# Altium integrated library TI_Logic_Specialty_Logic.IntLib: 2504 symbols (part 17 of 81)
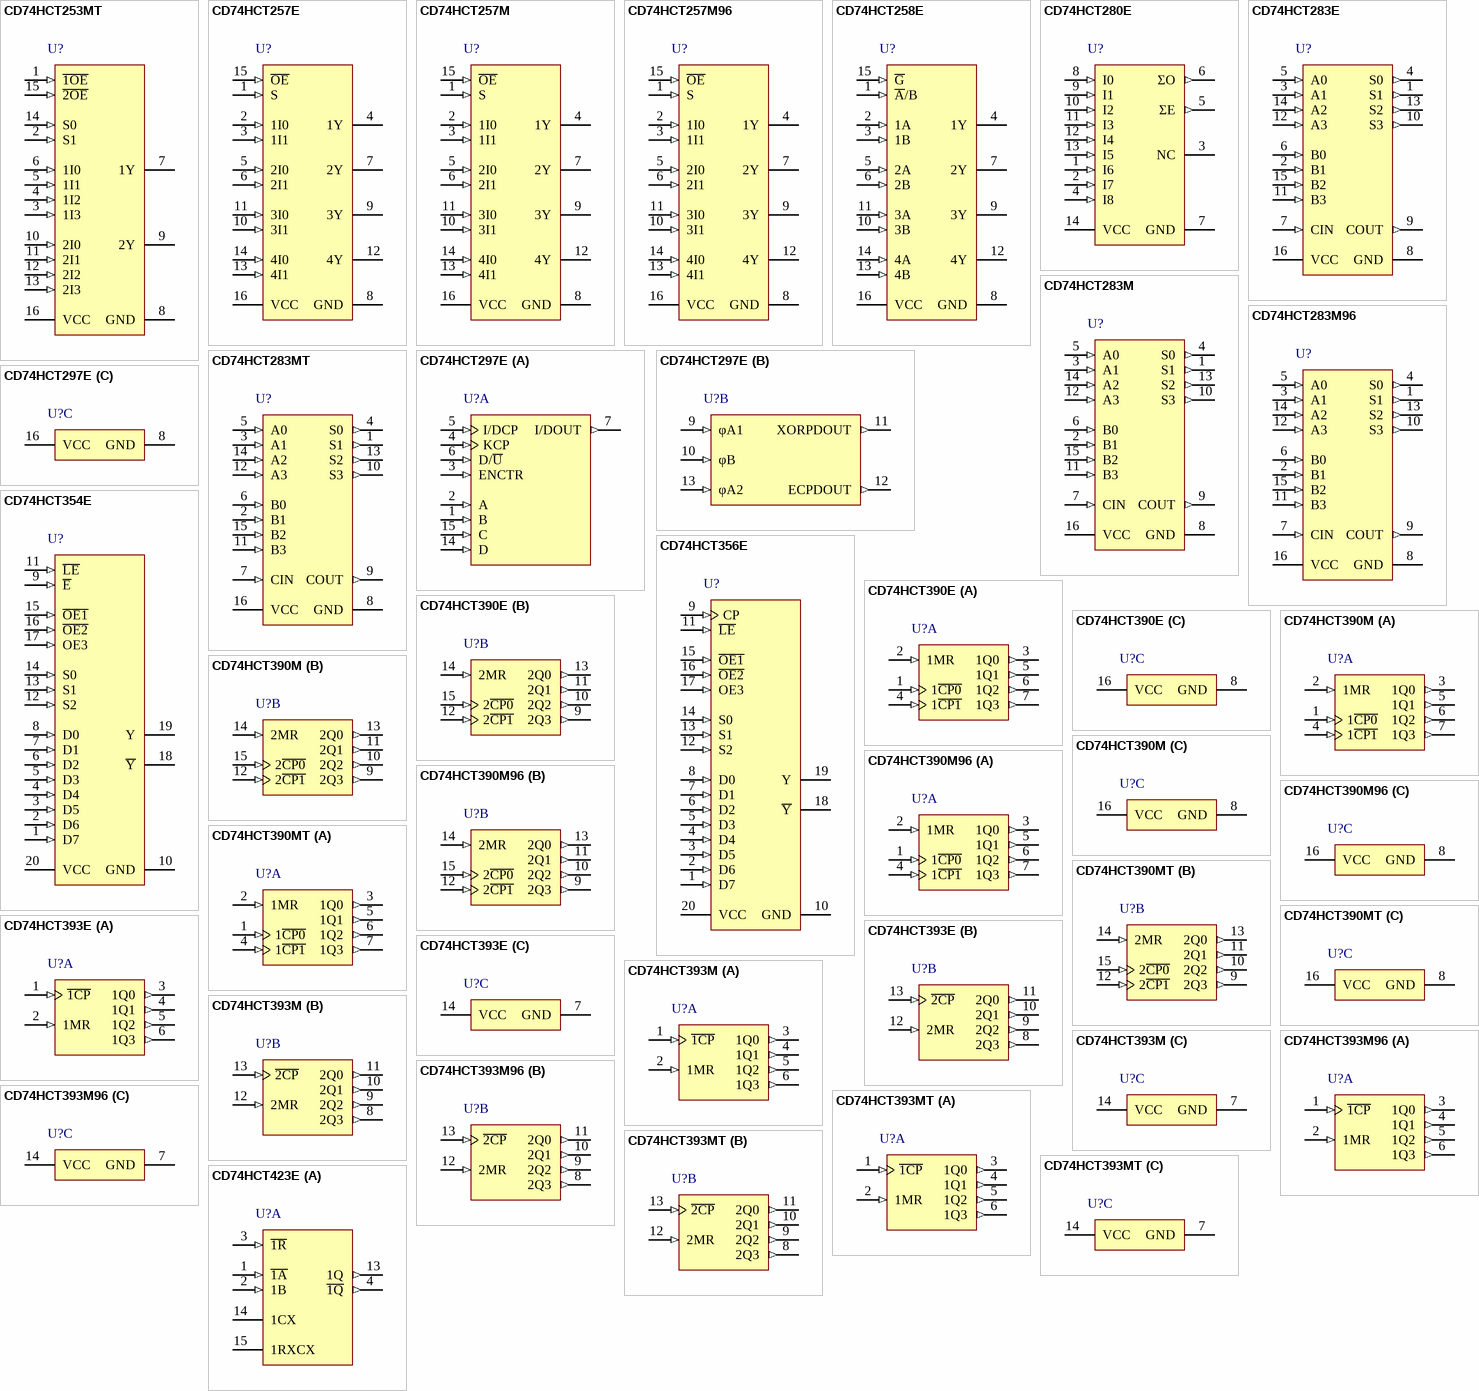
[diagram p120: symbols CD74HCT253MT to CD74HCT423E]

## CD74HCT393MT
designator U?
High Speed CMOS Logic Dual 4-Stage Binary Counter, D0014A, SMALL T&R; Generic Part Number: CD74HCT393; Manufacturer: Texas Instruments; PartNumber: CD74HCT393MT; VCC(Min)(V): 4.5; VCC(Max)(V): 5.5; Inputs: 1; ICC @ Nom Voltage(Max)(mA): 0.08; Input Type: TTL; Bits(#): 4; F @ Nom Voltage(Max)(Mhz): 25; Rating: Catalog; Technology Family: HCT; Voltage(Nom)(V): 5; Schmitt Trigger: No; Output Drive (IOL/IOH)(Max)(mA): 4/-4; tpd @ Nom Voltage(Max)(ns): 78; DatasheetVersion: SCHS186E; PackageReference: D0014A; Supplier 1: Mouser; Supplier Part Number 1: 595-CD74HCT393MT; Supplier 2: Digi-Key; Supplier Part Number 2: 296-28590-2-ND; Supplier 3: Digi-Key; Supplier Part Number 3: 296-28590-1-ND; Supplier 4: Digi-Key; Supplier Part Number 4: 296-28590-6-ND; Output Type: CMOS; Function: Counter; Operating Temperature Range(C): -55 to 125; Type: Binary; Code_JEDEC: MS-012; ComponentLink1Description: Manufacturer URL; ComponentLink1URL: http://www.ti.com/; ComponentLink2Description: Datasheet; ComponentLink2URL: http://www.ti.com/lit/ds/symlink/cd74hct393.pdf; ComponentLink3Description: Package Specification; ComponentLink3URL: http://www.ti.com/lit/ml/mpds177g/mpds177g.pdf
footprint D0014A_N (SOIC, 14-Leads, Body 8.75x4mm, Pitch 1.27mm, IPC Medium Density)
footprint D0014A_M (SOIC, 14-Leads, Body 8.75x4mm, Pitch 1.27mm, IPC Low Density)
footprint D0014A_L (SOIC, 14-Leads, Body 8.75x4mm, Pitch 1.27mm, IPC High Density)
part A pins: 1 ~{1CP} (in), 2 1MR (in), 3 1Q0 (out), 4 1Q1 (out), 5 1Q2 (out), 6 1Q3 (out)
part B pins: 8 2Q3 (out), 9 2Q2 (out), 10 2Q1 (out), 11 2Q0 (out), 12 2MR (in), 13 ~{2CP} (in)
part C pins: 7 GND (power), 14 VCC (power)

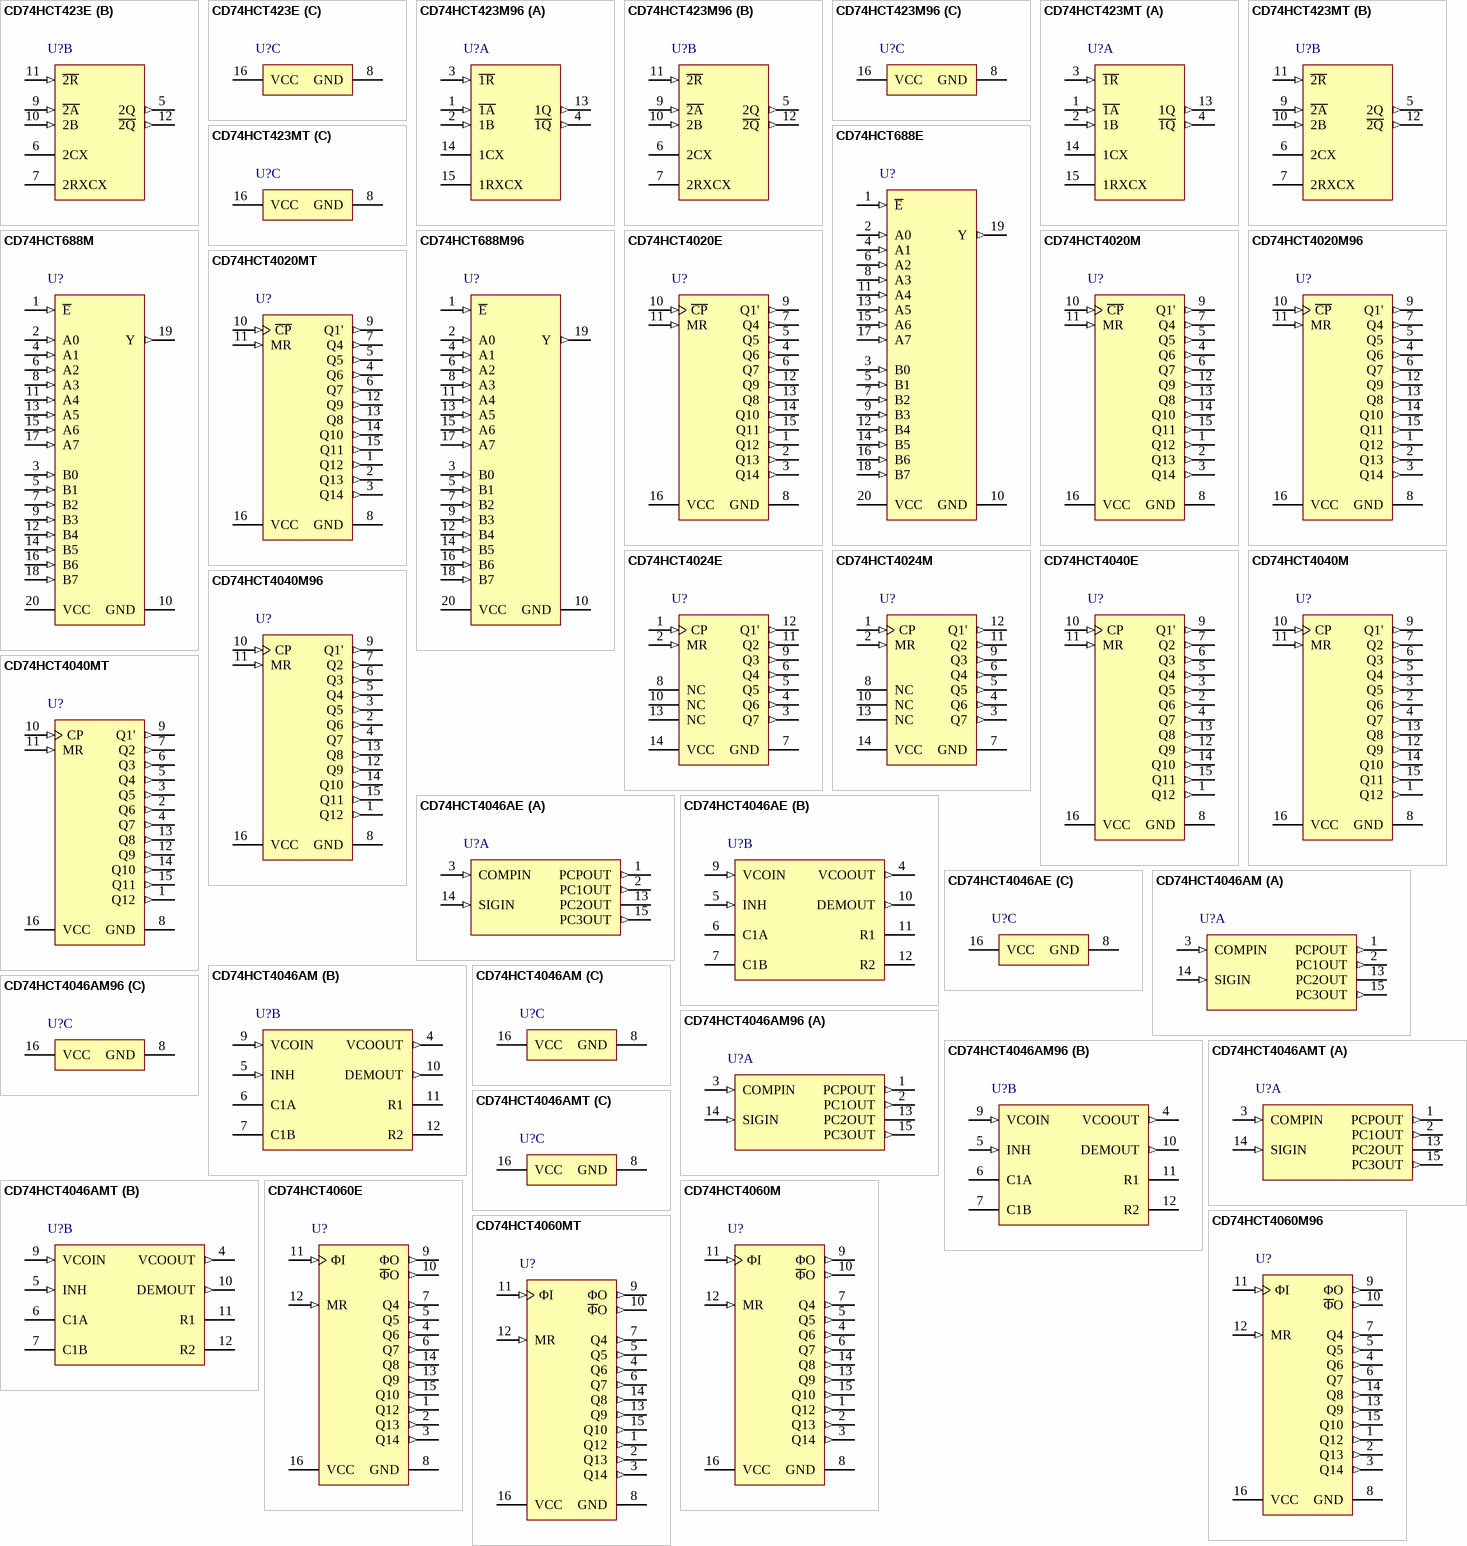
[diagram p21: symbols CD74HCT423E to CD74HCT4060MT]

## CD74HCT423E
designator U?
High Speed CMOS Logic Dual Retriggerable Monostable Multivibrators with Reset, N0016A, TUBE; Generic Part Number: CD74HCT423; Manufacturer: Texas Instruments; PartNumber: CD74HCT423E; VCC(Min)(V): 4.5; VCC(Max)(V): 5.5; ICC @ Nom Voltage(Max)(mA): 0.08; Input Type: TTL; Bits(#): 2; F @ Nom Voltage(Max)(Mhz): 25; Rating: Catalog; Technology Family: HCT; Voltage(Nom)(V): 5; Schmitt Trigger: No; Output Drive (IOL/IOH)(Max)(mA): 4/-4; tpd @ Nom Voltage(Max)(ns): 85; DatasheetVersion: SCHS142F; PackageReference: N0016A; Supplier 1: Mouser; Supplier Part Number 1: 595-CD74HCT423E; Supplier 2: Digi-Key; Supplier Part Number 2: 296-2151-5-ND; Output Type: CMOS; Operating Temperature Range(C): -55 to 125; Code_JEDEC: MS-001; ComponentLink1Description: Manufacturer URL; ComponentLink1URL: http://www.ti.com/; ComponentLink2Description: Datasheet; ComponentLink2URL: http://www.ti.com/lit/ds/symlink/cd74hct423.pdf; ComponentLink3Description: Package Specification; ComponentLink3URL: http://www.ti.com/lit/ml/mpdi002c/mpdi002c.pdf
footprint N0016A (DIP, 16-Leads, Body 19.7x6.6mm, Pitch 2.54mm)
part A pins: 1 ~{1A} (in), 2 1B (in), 3 ~{1R} (in), 4 ~{1Q} (out), 13 1Q (out), 14 1CX, 15 1RXCX
part B pins: 5 2Q (out), 6 2CX, 7 2RXCX, 9 ~{2A} (in), 10 2B (in), 11 ~{2R} (in), 12 ~{2Q} (out)
part C pins: 8 GND (power), 16 VCC (power)

## CD74HCT423M96
designator U?
High Speed CMOS Logic Dual Retriggerable Monostable Multivibrators with Reset, D0016A, LARGE T&R; Generic Part Number: CD74HCT423; Manufacturer: Texas Instruments; PartNumber: CD74HCT423M96; VCC(Min)(V): 4.5; VCC(Max)(V): 5.5; ICC @ Nom Voltage(Max)(mA): 0.08; Input Type: TTL; Bits(#): 2; F @ Nom Voltage(Max)(Mhz): 25; Rating: Catalog; Technology Family: HCT; Voltage(Nom)(V): 5; Schmitt Trigger: No; Output Drive (IOL/IOH)(Max)(mA): 4/-4; tpd @ Nom Voltage(Max)(ns): 85; DatasheetVersion: SCHS142F; PackageReference: D0016A; Supplier 1: Mouser; Supplier Part Number 1: 595-CD74HCT423M96; Supplier 2: Digi-Key; Supplier Part Number 2: 296-37336-2-ND; Supplier 3: Digi-Key; Supplier Part Number 3: 296-37336-1-ND; Supplier 4: Digi-Key; Supplier Part Number 4: 296-37336-6-ND; Output Type: CMOS; Operating Temperature Range(C): -55 to 125; Code_JEDEC: MS-012 variation AC; ComponentLink1Description: Manufacturer URL; ComponentLink1URL: http://www.ti.com/; ComponentLink2Description: Datasheet; ComponentLink2URL: http://www.ti.com/lit/ds/symlink/cd74hct423.pdf; ComponentLink3Description: Package Specification; ComponentLink3URL: http://www.ti.com/lit/ml/mpds178g/mpds178g.pdf
footprint D0016A_N (SOIC, 16-Leads, Body 10x4mm, Pitch 1.27mm, IPC Medium Density)
footprint D0016A_M (SOIC, 16-Leads, Body 10x4mm, Pitch 1.27mm, IPC Low Density)
footprint D0016A_L (SOIC, 16-Leads, Body 10x4mm, Pitch 1.27mm, IPC High Density)
part A pins: 1 ~{1A} (in), 2 1B (in), 3 ~{1R} (in), 4 ~{1Q} (out), 13 1Q (out), 14 1CX, 15 1RXCX
part B pins: 5 2Q (out), 6 2CX, 7 2RXCX, 9 ~{2A} (in), 10 2B (in), 11 ~{2R} (in), 12 ~{2Q} (out)
part C pins: 8 GND (power), 16 VCC (power)

## CD74HCT423MT
designator U?
High Speed CMOS Logic Dual Retriggerable Monostable Multivibrators with Reset, D0016A, SMALL T&R; Generic Part Number: CD74HCT423; Manufacturer: Texas Instruments; PartNumber: CD74HCT423MT; VCC(Min)(V): 4.5; VCC(Max)(V): 5.5; ICC @ Nom Voltage(Max)(mA): 0.08; Input Type: TTL; Bits(#): 2; F @ Nom Voltage(Max)(Mhz): 25; Rating: Catalog; Technology Family: HCT; Voltage(Nom)(V): 5; Schmitt Trigger: No; Output Drive (IOL/IOH)(Max)(mA): 4/-4; tpd @ Nom Voltage(Max)(ns): 85; DatasheetVersion: SCHS142F; PackageReference: D0016A; Supplier 1: Mouser; Supplier Part Number 1: 595-CD74HCT423MT; Supplier 2: Digi-Key; Supplier Part Number 2: CD74HCT423MT-ND; Output Type: CMOS; Operating Temperature Range(C): -55 to 125; Code_JEDEC: MS-012 variation AC; ComponentLink1Description: Manufacturer URL; ComponentLink1URL: http://www.ti.com/; ComponentLink2Description: Datasheet; ComponentLink2URL: http://www.ti.com/lit/ds/symlink/cd74hct423.pdf; ComponentLink3Description: Package Specification; ComponentLink3URL: http://www.ti.com/lit/ml/mpds178g/mpds178g.pdf
footprint D0016A_N (SOIC, 16-Leads, Body 10x4mm, Pitch 1.27mm, IPC Medium Density)
footprint D0016A_M (SOIC, 16-Leads, Body 10x4mm, Pitch 1.27mm, IPC Low Density)
footprint D0016A_L (SOIC, 16-Leads, Body 10x4mm, Pitch 1.27mm, IPC High Density)
part A pins: 1 ~{1A} (in), 2 1B (in), 3 ~{1R} (in), 4 ~{1Q} (out), 13 1Q (out), 14 1CX, 15 1RXCX
part B pins: 5 2Q (out), 6 2CX, 7 2RXCX, 9 ~{2A} (in), 10 2B (in), 11 ~{2R} (in), 12 ~{2Q} (out)
part C pins: 8 GND (power), 16 VCC (power)

## CD74HCT688E
designator U?
8-Bit Identity/Magnitude Comparators (P=Q) with Enable, N0020A, TUBE; Generic Part Number: CD74HCT688; Manufacturer: Texas Instruments; PartNumber: CD74HCT688E; VCC(Min)(V): 4.5; VCC(Max)(V): 5.5; Output Type: CMOS; ICC @ Nom Voltage(Max)(mA): 0.08; Input Type: TTL; Bits(#): 8; F @ Nom Voltage(Max)(Mhz): 70; Rating: Catalog; Technology Family: HCT; Schmitt Trigger: No; Output Drive (IOL/IOH)(Max)(mA): 4/-4; tpd @ Nom Voltage(Max)(ns): 42; DatasheetVersion: SCHS196C; PackageReference: N0020A; Supplier 1: Mouser; Supplier Part Number 1: 595-CD74HCT688E; Supplier 2: Digi-Key; Supplier Part Number 2: 296-2131-5-ND; Operating Temperature Range(C): -55 to 125; Voltage(Nom)(V): 4.5; ComponentLink1Description: Manufacturer URL; ComponentLink1URL: http://www.ti.com/; ComponentLink2Description: Datasheet; ComponentLink2URL: http://www.ti.com/lit/ds/symlink/cd74hct688.pdf
footprint N0020A (DIP, 20-Leads, Body 26.9x6.6mm, Pitch 2.54mm)
pins: 1 ~{E} (in), 2 A0 (in), 3 B0 (in), 4 A1 (in), 5 B1 (in), 6 A2 (in), 7 B2 (in), 8 A3 (in), 9 B3 (in), 10 GND (power), 11 A4 (in), 12 B4 (in), 13 A5 (in), 14 B5 (in), 15 A6 (in), 16 B6 (in), 17 A7 (in), 18 B7 (in), 19 Y (out), 20 VCC (power)

## CD74HCT688M
designator U?
8-Bit Identity/Magnitude Comparators (P=Q) with Enable, DW0020A, TUBE; Generic Part Number: CD74HCT688; Manufacturer: Texas Instruments; PartNumber: CD74HCT688M; VCC(Min)(V): 4.5; VCC(Max)(V): 5.5; Output Type: CMOS; ICC @ Nom Voltage(Max)(mA): 0.08; Input Type: TTL; Bits(#): 8; F @ Nom Voltage(Max)(Mhz): 70; Rating: Catalog; Technology Family: HCT; Schmitt Trigger: No; Output Drive (IOL/IOH)(Max)(mA): 4/-4; tpd @ Nom Voltage(Max)(ns): 42; DatasheetVersion: SCHS196C; PackageReference: DW0020A; Supplier 1: Mouser; Supplier Part Number 1: 595-CD74HCT688M; Supplier 2: Digi-Key; Supplier Part Number 2: 296-9295-5-ND; Operating Temperature Range(C): -55 to 125; Voltage(Nom)(V): 4.5; ComponentLink1Description: Manufacturer URL; ComponentLink1URL: http://www.ti.com/; ComponentLink2Description: Datasheet; ComponentLink2URL: http://www.ti.com/lit/ds/symlink/cd74hct688.pdf
footprint DW0020A_N (SOIC, 20-Leads, Body 13x7.6mm, Pitch 1.27mm, IPC Medium Density)
footprint DW0020A_M (SOIC, 20-Leads, Body 13x7.6mm, Pitch 1.27mm, IPC Low Density)
footprint DW0020A_L (SOIC, 20-Leads, Body 13x7.6mm, Pitch 1.27mm, IPC High Density)
pins: 1 ~{E} (in), 2 A0 (in), 3 B0 (in), 4 A1 (in), 5 B1 (in), 6 A2 (in), 7 B2 (in), 8 A3 (in), 9 B3 (in), 10 GND (power), 11 A4 (in), 12 B4 (in), 13 A5 (in), 14 B5 (in), 15 A6 (in), 16 B6 (in), 17 A7 (in), 18 B7 (in), 19 Y (out), 20 VCC (power)

## CD74HCT688M96
designator U?
8-Bit Identity/Magnitude Comparators (P=Q) with Enable, DW0020A, LARGE T&R; Generic Part Number: CD74HCT688; Manufacturer: Texas Instruments; PartNumber: CD74HCT688M96; VCC(Min)(V): 4.5; VCC(Max)(V): 5.5; Output Type: CMOS; ICC @ Nom Voltage(Max)(mA): 0.08; Input Type: TTL; Bits(#): 8; F @ Nom Voltage(Max)(Mhz): 70; Rating: Catalog; Technology Family: HCT; Schmitt Trigger: No; Output Drive (IOL/IOH)(Max)(mA): 4/-4; tpd @ Nom Voltage(Max)(ns): 42; DatasheetVersion: SCHS196C; PackageReference: DW0020A; Supplier 1: Mouser; Supplier Part Number 1: 595-CD74HCT688M96; Supplier 2: Digi-Key; Supplier Part Number 2: 296-24357-2-ND; Supplier 3: Digi-Key; Supplier Part Number 3: 296-24357-1-ND; Supplier 4: Digi-Key; Supplier Part Number 4: 296-24357-6-ND; Operating Temperature Range(C): -55 to 125; Voltage(Nom)(V): 4.5; ComponentLink1Description: Manufacturer URL; ComponentLink1URL: http://www.ti.com/; ComponentLink2Description: Datasheet; ComponentLink2URL: http://www.ti.com/lit/ds/symlink/cd74hct688.pdf
footprint DW0020A_N (SOIC, 20-Leads, Body 13x7.6mm, Pitch 1.27mm, IPC Medium Density)
footprint DW0020A_M (SOIC, 20-Leads, Body 13x7.6mm, Pitch 1.27mm, IPC Low Density)
footprint DW0020A_L (SOIC, 20-Leads, Body 13x7.6mm, Pitch 1.27mm, IPC High Density)
pins: 1 ~{E} (in), 2 A0 (in), 3 B0 (in), 4 A1 (in), 5 B1 (in), 6 A2 (in), 7 B2 (in), 8 A3 (in), 9 B3 (in), 10 GND (power), 11 A4 (in), 12 B4 (in), 13 A5 (in), 14 B5 (in), 15 A6 (in), 16 B6 (in), 17 A7 (in), 18 B7 (in), 19 Y (out), 20 VCC (power)

## CD74HCT4020E
designator U?
High Speed CMOS Logic 14-Stage Binary Counter, N0016A, TUBE; Generic Part Number: CD74HCT4020; Manufacturer: Texas Instruments; PartNumber: CD74HCT4020E; VCC(Min)(V): 4.5; VCC(Max)(V): 5.5; Inputs: 1; ICC @ Nom Voltage(Max)(mA): 0.08; Input Type: TTL; Bits(#): 14; F @ Nom Voltage(Max)(Mhz): 25; Rating: Catalog; Technology Family: HCT; Voltage(Nom)(V): 5; Schmitt Trigger: No; Output Drive (IOL/IOH)(Max)(mA): 4/-4; tpd @ Nom Voltage(Max)(ns): 50; DatasheetVersion: SCHS201C; PackageReference: N0016A; Supplier 1: Mouser; Supplier Part Number 1: 595-CD74HCT4020E; Supplier 2: Digi-Key; Supplier Part Number 2: 296-33154-5-ND; Output Type: CMOS; Function: Counter; Operating Temperature Range(C): -55 to 125; Type: Binary; Code_JEDEC: MS-001; ComponentLink1Description: Manufacturer URL; ComponentLink1URL: http://www.ti.com/; ComponentLink2Description: Datasheet; ComponentLink2URL: http://www.ti.com/lit/ds/symlink/cd74hct4020.pdf; ComponentLink3Description: Package Specification; ComponentLink3URL: http://www.ti.com/lit/ml/mpdi002c/mpdi002c.pdf
footprint N0016A (DIP, 16-Leads, Body 19.7x6.6mm, Pitch 2.54mm)
pins: 1 Q12 (out), 2 Q13 (out), 3 Q14 (out), 4 Q6 (out), 5 Q5 (out), 6 Q7 (out), 7 Q4 (out), 8 GND (power), 9 Q1' (out), 10 ~{CP} (in), 11 MR (in), 12 Q9 (out), 13 Q8 (out), 14 Q10 (out), 15 Q11 (out), 16 VCC (power)

## CD74HCT4020M
designator U?
High Speed CMOS Logic 14-Stage Binary Counter, D0016A, TUBE; Generic Part Number: CD74HCT4020; Manufacturer: Texas Instruments; PartNumber: CD74HCT4020M; VCC(Min)(V): 4.5; VCC(Max)(V): 5.5; Inputs: 1; ICC @ Nom Voltage(Max)(mA): 0.08; Input Type: TTL; Bits(#): 14; F @ Nom Voltage(Max)(Mhz): 25; Rating: Catalog; Technology Family: HCT; Voltage(Nom)(V): 5; Schmitt Trigger: No; Output Drive (IOL/IOH)(Max)(mA): 4/-4; tpd @ Nom Voltage(Max)(ns): 50; DatasheetVersion: SCHS201C; PackageReference: D0016A; Supplier 1: Mouser; Supplier Part Number 1: 595-CD74HCT4020M; Supplier 2: Digi-Key; Supplier Part Number 2: 296-9273-5-ND; Output Type: CMOS; Function: Counter; Operating Temperature Range(C): -55 to 125; Type: Binary; Code_JEDEC: MS-012 variation AC; ComponentLink1Description: Manufacturer URL; ComponentLink1URL: http://www.ti.com/; ComponentLink2Description: Datasheet; ComponentLink2URL: http://www.ti.com/lit/ds/symlink/cd74hct4020.pdf; ComponentLink3Description: Package Specification; ComponentLink3URL: http://www.ti.com/lit/ml/mpds178g/mpds178g.pdf
footprint D0016A_N (SOIC, 16-Leads, Body 10x4mm, Pitch 1.27mm, IPC Medium Density)
footprint D0016A_M (SOIC, 16-Leads, Body 10x4mm, Pitch 1.27mm, IPC Low Density)
footprint D0016A_L (SOIC, 16-Leads, Body 10x4mm, Pitch 1.27mm, IPC High Density)
pins: 1 Q12 (out), 2 Q13 (out), 3 Q14 (out), 4 Q6 (out), 5 Q5 (out), 6 Q7 (out), 7 Q4 (out), 8 GND (power), 9 Q1' (out), 10 ~{CP} (in), 11 MR (in), 12 Q9 (out), 13 Q8 (out), 14 Q10 (out), 15 Q11 (out), 16 VCC (power)

## CD74HCT4020M96
designator U?
High Speed CMOS Logic 14-Stage Binary Counter, D0016A, LARGE T&R; Generic Part Number: CD74HCT4020; Manufacturer: Texas Instruments; PartNumber: CD74HCT4020M96; VCC(Min)(V): 4.5; VCC(Max)(V): 5.5; Inputs: 1; ICC @ Nom Voltage(Max)(mA): 0.08; Input Type: TTL; Bits(#): 14; F @ Nom Voltage(Max)(Mhz): 25; Rating: Catalog; Technology Family: HCT; Voltage(Nom)(V): 5; Schmitt Trigger: No; Output Drive (IOL/IOH)(Max)(mA): 4/-4; tpd @ Nom Voltage(Max)(ns): 50; DatasheetVersion: SCHS201C; PackageReference: D0016A; Supplier 1: Mouser; Supplier Part Number 1: 595-CD74HCT4020M96; Supplier 2: Digi-Key; Supplier Part Number 2: 296-42046-2-ND; Supplier 3: Digi-Key; Supplier Part Number 3: 296-42046-1-ND; Supplier 4: Digi-Key; Supplier Part Number 4: 296-42046-6-ND; Output Type: CMOS; Function: Counter; Operating Temperature Range(C): -55 to 125; Type: Binary; Code_JEDEC: MS-012 variation AC; ComponentLink1Description: Manufacturer URL; ComponentLink1URL: http://www.ti.com/; ComponentLink2Description: Datasheet; ComponentLink2URL: http://www.ti.com/lit/ds/symlink/cd74hct4020.pdf; ComponentLink3Description: Package Specification; ComponentLink3URL: http://www.ti.com/lit/ml/mpds178g/mpds178g.pdf
footprint D0016A_N (SOIC, 16-Leads, Body 10x4mm, Pitch 1.27mm, IPC Medium Density)
footprint D0016A_M (SOIC, 16-Leads, Body 10x4mm, Pitch 1.27mm, IPC Low Density)
footprint D0016A_L (SOIC, 16-Leads, Body 10x4mm, Pitch 1.27mm, IPC High Density)
pins: 1 Q12 (out), 2 Q13 (out), 3 Q14 (out), 4 Q6 (out), 5 Q5 (out), 6 Q7 (out), 7 Q4 (out), 8 GND (power), 9 Q1' (out), 10 ~{CP} (in), 11 MR (in), 12 Q9 (out), 13 Q8 (out), 14 Q10 (out), 15 Q11 (out), 16 VCC (power)

## CD74HCT4020MT
designator U?
High Speed CMOS Logic 14-Stage Binary Counter, D0016A, SMALL T&R; Generic Part Number: CD74HCT4020; Manufacturer: Texas Instruments; PartNumber: CD74HCT4020MT; VCC(Min)(V): 4.5; VCC(Max)(V): 5.5; Inputs: 1; ICC @ Nom Voltage(Max)(mA): 0.08; Input Type: TTL; Bits(#): 14; F @ Nom Voltage(Max)(Mhz): 25; Rating: Catalog; Technology Family: HCT; Voltage(Nom)(V): 5; Schmitt Trigger: No; Output Drive (IOL/IOH)(Max)(mA): 4/-4; tpd @ Nom Voltage(Max)(ns): 50; DatasheetVersion: SCHS201C; PackageReference: D0016A; Supplier 1: Mouser; Supplier Part Number 1: 595-CD74HCT4020MT; Supplier 2: Digi-Key; Supplier Part Number 2: CD74HCT4020MT-ND; Output Type: CMOS; Function: Counter; Operating Temperature Range(C): -55 to 125; Type: Binary; Code_JEDEC: MS-012 variation AC; ComponentLink1Description: Manufacturer URL; ComponentLink1URL: http://www.ti.com/; ComponentLink2Description: Datasheet; ComponentLink2URL: http://www.ti.com/lit/ds/symlink/cd74hct4020.pdf; ComponentLink3Description: Package Specification; ComponentLink3URL: http://www.ti.com/lit/ml/mpds178g/mpds178g.pdf
footprint D0016A_N (SOIC, 16-Leads, Body 10x4mm, Pitch 1.27mm, IPC Medium Density)
footprint D0016A_M (SOIC, 16-Leads, Body 10x4mm, Pitch 1.27mm, IPC Low Density)
footprint D0016A_L (SOIC, 16-Leads, Body 10x4mm, Pitch 1.27mm, IPC High Density)
pins: 1 Q12 (out), 2 Q13 (out), 3 Q14 (out), 4 Q6 (out), 5 Q5 (out), 6 Q7 (out), 7 Q4 (out), 8 GND (power), 9 Q1' (out), 10 ~{CP} (in), 11 MR (in), 12 Q9 (out), 13 Q8 (out), 14 Q10 (out), 15 Q11 (out), 16 VCC (power)

## CD74HCT4024E
designator U?
High Speed CMOS Logic 7-Stage Binary Ripple Counter, N0014A, TUBE; Generic Part Number: CD74HCT4024; Manufacturer: Texas Instruments; PartNumber: CD74HCT4024E; VCC(Min)(V): 4.5; VCC(Max)(V): 5.5; Inputs: 1; ICC @ Nom Voltage(Max)(mA): 0.08; Input Type: TTL; Bits(#): 7; F @ Nom Voltage(Max)(Mhz): 25; Rating: Catalog; Technology Family: HCT; Voltage(Nom)(V): 5; Schmitt Trigger: No; Output Drive (IOL/IOH)(Max)(mA): 4/-4; tpd @ Nom Voltage(Max)(ns): 50; DatasheetVersion: SCHS202C; PackageReference: N0014A; Supplier 1: Mouser; Supplier Part Number 1: 595-CD74HCT4024E; Supplier 2: Digi-Key; Supplier Part Number 2: 296-33155-5-ND; Output Type: CMOS; Function: Counter; Operating Temperature Range(C): -55 to 125; Type: Binary; Code_JEDEC: MS-001; ComponentLink1Description: Manufacturer URL; ComponentLink1URL: http://www.ti.com/; ComponentLink2Description: Datasheet; ComponentLink2URL: http://www.ti.com/lit/ds/symlink/cd74hct4024.pdf; ComponentLink3Description: Package Specification; ComponentLink3URL: http://www.ti.com/lit/ml/mpdi002c/mpdi002c.pdf
footprint N0014A (DIP, 14-Leads, Body 19.7x6.6mm, Pitch 2.54mm)
pins: 1 CP (in), 2 MR (in), 3 Q7 (out), 4 Q6 (out), 5 Q5 (out), 6 Q4 (out), 7 GND (power), 8 NC, 9 Q3 (out), 10 NC, 11 Q2 (out), 12 Q1' (out), 13 NC, 14 VCC (power)

## CD74HCT4024M
designator U?
High Speed CMOS Logic 7-Stage Binary Ripple Counter, D0014A, TUBE; Generic Part Number: CD74HCT4024; Manufacturer: Texas Instruments; PartNumber: CD74HCT4024M; VCC(Min)(V): 4.5; VCC(Max)(V): 5.5; Inputs: 1; ICC @ Nom Voltage(Max)(mA): 0.08; Input Type: TTL; Bits(#): 7; F @ Nom Voltage(Max)(Mhz): 25; Rating: Catalog; Technology Family: HCT; Voltage(Nom)(V): 5; Schmitt Trigger: No; Output Drive (IOL/IOH)(Max)(mA): 4/-4; tpd @ Nom Voltage(Max)(ns): 50; DatasheetVersion: SCHS202C; PackageReference: D0014A; Supplier 1: Mouser; Supplier Part Number 1: 595-CD74HCT4024M; Supplier 2: Digi-Key; Supplier Part Number 2: 296-9274-5-ND; Output Type: CMOS; Function: Counter; Operating Temperature Range(C): -55 to 125; Type: Binary; Code_JEDEC: MS-012; ComponentLink1Description: Manufacturer URL; ComponentLink1URL: http://www.ti.com/; ComponentLink2Description: Datasheet; ComponentLink2URL: http://www.ti.com/lit/ds/symlink/cd74hct4024.pdf; ComponentLink3Description: Package Specification; ComponentLink3URL: http://www.ti.com/lit/ml/mpds177g/mpds177g.pdf
footprint D0014A_N (SOIC, 14-Leads, Body 8.75x4mm, Pitch 1.27mm, IPC Medium Density)
footprint D0014A_M (SOIC, 14-Leads, Body 8.75x4mm, Pitch 1.27mm, IPC Low Density)
footprint D0014A_L (SOIC, 14-Leads, Body 8.75x4mm, Pitch 1.27mm, IPC High Density)
pins: 1 CP (in), 2 MR (in), 3 Q7 (out), 4 Q6 (out), 5 Q5 (out), 6 Q4 (out), 7 GND (power), 8 NC, 9 Q3 (out), 10 NC, 11 Q2 (out), 12 Q1' (out), 13 NC, 14 VCC (power)

## CD74HCT4040E
designator U?
High Speed CMOS Logic 12-Stage Binary Counter, N0016A, TUBE; Generic Part Number: CD74HCT4040; Manufacturer: Texas Instruments; PartNumber: CD74HCT4040E; VCC(Min)(V): 4.5; VCC(Max)(V): 5.5; Inputs: 1; ICC @ Nom Voltage(Max)(mA): 0.08; Input Type: TTL; Bits(#): 12; F @ Nom Voltage(Max)(Mhz): 25; Rating: Catalog; Technology Family: HCT; Voltage(Nom)(V): 5; Schmitt Trigger: No; Output Drive (IOL/IOH)(Max)(mA): 4/-4; tpd @ Nom Voltage(Max)(ns): 50; DatasheetVersion: SCHS203D; PackageReference: N0016A; Supplier 1: Mouser; Supplier Part Number 1: 595-CD74HCT4040E; Supplier 2: Digi-Key; Supplier Part Number 2: 296-2118-5-ND; Output Type: CMOS; Function: Counter; Operating Temperature Range(C): -55 to 125; Type: Binary; Code_JEDEC: MS-001; ComponentLink1Description: Manufacturer URL; ComponentLink1URL: http://www.ti.com/; ComponentLink2Description: Datasheet; ComponentLink2URL: http://www.ti.com/lit/ds/symlink/cd74hct4040.pdf; ComponentLink3Description: Package Specification; ComponentLink3URL: http://www.ti.com/lit/ml/mpdi002c/mpdi002c.pdf
footprint N0016A (DIP, 16-Leads, Body 19.7x6.6mm, Pitch 2.54mm)
pins: 1 Q12 (out), 2 Q6 (out), 3 Q5 (out), 4 Q7 (out), 5 Q4 (out), 6 Q3 (out), 7 Q2 (out), 8 GND (power), 9 Q1' (out), 10 CP (in), 11 MR (in), 12 Q9 (out), 13 Q8 (out), 14 Q10 (out), 15 Q11 (out), 16 VCC (power)

## CD74HCT4040M
designator U?
High Speed CMOS Logic 12-Stage Binary Counter, D0016A, TUBE; Generic Part Number: CD74HCT4040; Manufacturer: Texas Instruments; PartNumber: CD74HCT4040M; VCC(Min)(V): 4.5; VCC(Max)(V): 5.5; Inputs: 1; ICC @ Nom Voltage(Max)(mA): 0.08; Input Type: TTL; Bits(#): 12; F @ Nom Voltage(Max)(Mhz): 25; Rating: Catalog; Technology Family: HCT; Voltage(Nom)(V): 5; Schmitt Trigger: No; Output Drive (IOL/IOH)(Max)(mA): 4/-4; tpd @ Nom Voltage(Max)(ns): 50; DatasheetVersion: SCHS203D; PackageReference: D0016A; Supplier 1: Mouser; Supplier Part Number 1: 595-CD74HCT4040M; Supplier 2: Digi-Key; Supplier Part Number 2: 296-26028-5-ND; Output Type: CMOS; Function: Counter; Operating Temperature Range(C): -55 to 125; Type: Binary; Code_JEDEC: MS-012 variation AC; ComponentLink1Description: Manufacturer URL; ComponentLink1URL: http://www.ti.com/; ComponentLink2Description: Datasheet; ComponentLink2URL: http://www.ti.com/lit/ds/symlink/cd74hct4040.pdf; ComponentLink3Description: Package Specification; ComponentLink3URL: http://www.ti.com/lit/ml/mpds178g/mpds178g.pdf
footprint D0016A_N (SOIC, 16-Leads, Body 10x4mm, Pitch 1.27mm, IPC Medium Density)
footprint D0016A_M (SOIC, 16-Leads, Body 10x4mm, Pitch 1.27mm, IPC Low Density)
footprint D0016A_L (SOIC, 16-Leads, Body 10x4mm, Pitch 1.27mm, IPC High Density)
pins: 1 Q12 (out), 2 Q6 (out), 3 Q5 (out), 4 Q7 (out), 5 Q4 (out), 6 Q3 (out), 7 Q2 (out), 8 GND (power), 9 Q1' (out), 10 CP (in), 11 MR (in), 12 Q9 (out), 13 Q8 (out), 14 Q10 (out), 15 Q11 (out), 16 VCC (power)

## CD74HCT4040M96
designator U?
High Speed CMOS Logic 12-Stage Binary Counter, D0016A, LARGE T&R; Generic Part Number: CD74HCT4040; Manufacturer: Texas Instruments; PartNumber: CD74HCT4040M96; VCC(Min)(V): 4.5; VCC(Max)(V): 5.5; Inputs: 1; ICC @ Nom Voltage(Max)(mA): 0.08; Input Type: TTL; Bits(#): 12; F @ Nom Voltage(Max)(Mhz): 25; Rating: Catalog; Technology Family: HCT; Voltage(Nom)(V): 5; Schmitt Trigger: No; Output Drive (IOL/IOH)(Max)(mA): 4/-4; tpd @ Nom Voltage(Max)(ns): 50; DatasheetVersion: SCHS203D; PackageReference: D0016A; Supplier 1: Mouser; Supplier Part Number 1: 595-CD74HCT4040M96; Supplier 2: Digi-Key; Supplier Part Number 2: 296-14558-2-ND; Supplier 3: Digi-Key; Supplier Part Number 3: 296-14558-1-ND; Supplier 4: Digi-Key; Supplier Part Number 4: 296-14558-6-ND; Output Type: CMOS; Function: Counter; Operating Temperature Range(C): -55 to 125; Type: Binary; Code_JEDEC: MS-012 variation AC; ComponentLink1Description: Manufacturer URL; ComponentLink1URL: http://www.ti.com/; ComponentLink2Description: Datasheet; ComponentLink2URL: http://www.ti.com/lit/ds/symlink/cd74hct4040.pdf; ComponentLink3Description: Package Specification; ComponentLink3URL: http://www.ti.com/lit/ml/mpds178g/mpds178g.pdf
footprint D0016A_N (SOIC, 16-Leads, Body 10x4mm, Pitch 1.27mm, IPC Medium Density)
footprint D0016A_M (SOIC, 16-Leads, Body 10x4mm, Pitch 1.27mm, IPC Low Density)
footprint D0016A_L (SOIC, 16-Leads, Body 10x4mm, Pitch 1.27mm, IPC High Density)
pins: 1 Q12 (out), 2 Q6 (out), 3 Q5 (out), 4 Q7 (out), 5 Q4 (out), 6 Q3 (out), 7 Q2 (out), 8 GND (power), 9 Q1' (out), 10 CP (in), 11 MR (in), 12 Q9 (out), 13 Q8 (out), 14 Q10 (out), 15 Q11 (out), 16 VCC (power)

## CD74HCT4040MT
designator U?
High Speed CMOS Logic 12-Stage Binary Counter, D0016A, SMALL T&R; Generic Part Number: CD74HCT4040; Manufacturer: Texas Instruments; PartNumber: CD74HCT4040MT; VCC(Min)(V): 4.5; VCC(Max)(V): 5.5; Inputs: 1; ICC @ Nom Voltage(Max)(mA): 0.08; Input Type: TTL; Bits(#): 12; F @ Nom Voltage(Max)(Mhz): 25; Rating: Catalog; Technology Family: HCT; Voltage(Nom)(V): 5; Schmitt Trigger: No; Output Drive (IOL/IOH)(Max)(mA): 4/-4; tpd @ Nom Voltage(Max)(ns): 50; DatasheetVersion: SCHS203D; PackageReference: D0016A; Supplier 1: Mouser; Supplier Part Number 1: 595-CD74HCT4040MT; Supplier 2: Digi-Key; Supplier Part Number 2: CD74HCT4040MT-ND; Output Type: CMOS; Function: Counter; Operating Temperature Range(C): -55 to 125; Type: Binary; Code_JEDEC: MS-012 variation AC; ComponentLink1Description: Manufacturer URL; ComponentLink1URL: http://www.ti.com/; ComponentLink2Description: Datasheet; ComponentLink2URL: http://www.ti.com/lit/ds/symlink/cd74hct4040.pdf; ComponentLink3Description: Package Specification; ComponentLink3URL: http://www.ti.com/lit/ml/mpds178g/mpds178g.pdf
footprint D0016A_N (SOIC, 16-Leads, Body 10x4mm, Pitch 1.27mm, IPC Medium Density)
footprint D0016A_M (SOIC, 16-Leads, Body 10x4mm, Pitch 1.27mm, IPC Low Density)
footprint D0016A_L (SOIC, 16-Leads, Body 10x4mm, Pitch 1.27mm, IPC High Density)
pins: 1 Q12 (out), 2 Q6 (out), 3 Q5 (out), 4 Q7 (out), 5 Q4 (out), 6 Q3 (out), 7 Q2 (out), 8 GND (power), 9 Q1' (out), 10 CP (in), 11 MR (in), 12 Q9 (out), 13 Q8 (out), 14 Q10 (out), 15 Q11 (out), 16 VCC (power)

## CD74HCT4046AE
designator U?
High Speed CMOS Logic Phase-Locked-Loop with VCO, N0016A, TUBE; Generic Part Number: CD74HCT4046A; Manufacturer: Texas Instruments; PartNumber: CD74HCT4046AE; VCC(Min)(V): 4.5; VCC(Max)(V): 5.5; ICC @ Nom Voltage(Max)(mA): 0.08; Input Type: TTL; Bits(#): 1; F @ Nom Voltage(Max)(Mhz): 25; Rating: Catalog; Technology Family: HCT; Voltage(Nom)(V): 5; Schmitt Trigger: No; Output Drive (IOL/IOH)(Max)(mA): 4/-4; tpd @ Nom Voltage(Max)(ns): 85; DatasheetVersion: SCHS204J; PackageReference: N0016A; Supplier 1: Mouser; Supplier Part Number 1: 595-CD74HCT4046AE; Supplier 2: Digi-Key; Supplier Part Number 2: 296-33156-5-ND; Output Type: CMOS; Operating Temperature Range(C): -55 to 125; ComponentLink1Description: Manufacturer URL; ComponentLink1URL: http://www.ti.com/; ComponentLink2Description: Datasheet; ComponentLink2URL: http://www.ti.com/lit/ds/symlink/cd74hct4046a.pdf
footprint N0016A (DIP, 16-Leads, Body 19.7x6.6mm, Pitch 2.54mm)
part A pins: 1 PCPOUT (out) "Phase comparator pulse output", 2 PC1OUT (out) "Phase comparator 1 output", 3 COMPIN (in) "Comparator input", 13 PC2OUT (hiz) "Phase comparator 2 output", 14 SIGIN (in) "Signal input", 15 PC3OUT (out) "Phase comparator 3 output"
part B pins: 4 VCOOUT (out) "VCO output", 5 INH (in) "Inhibit input", 6 C1A "Capacitor C1 connection A", 7 C1B "Capacitor C1 connection B", 9 VCOIN (in) "VCO input", 10 DEMOUT (out) "Demodulator output", 11 R1 "Resistor R1 connection", 12 R2 "Resistor R2 connection"
part C pins: 8 GND (power) "Ground (0 V)", 16 VCC (power) "Positive supply voltage"

## CD74HCT4046AM
designator U?
High Speed CMOS Logic Phase-Locked-Loop with VCO, D0016A, TUBE; Generic Part Number: CD74HCT4046A; Manufacturer: Texas Instruments; PartNumber: CD74HCT4046AM; VCC(Min)(V): 4.5; VCC(Max)(V): 5.5; ICC @ Nom Voltage(Max)(mA): 0.08; Input Type: TTL; Bits(#): 1; F @ Nom Voltage(Max)(Mhz): 25; Rating: Catalog; Technology Family: HCT; Voltage(Nom)(V): 5; Schmitt Trigger: No; Output Drive (IOL/IOH)(Max)(mA): 4/-4; tpd @ Nom Voltage(Max)(ns): 85; DatasheetVersion: SCHS204J; PackageReference: D0016A; Supplier 1: Mouser; Supplier Part Number 1: 595-CD74HCT4046AM; Supplier 2: Digi-Key; Supplier Part Number 2: 296-9275-5-ND; Output Type: CMOS; Operating Temperature Range(C): -55 to 125; ComponentLink1Description: Manufacturer URL; ComponentLink1URL: http://www.ti.com/; ComponentLink2Description: Datasheet; ComponentLink2URL: http://www.ti.com/lit/ds/symlink/cd74hct4046a.pdf
footprint D0016A_N (SOIC, 16-Leads, Body 10x4mm, Pitch 1.27mm, IPC Medium Density)
footprint D0016A_M (SOIC, 16-Leads, Body 10x4mm, Pitch 1.27mm, IPC Low Density)
footprint D0016A_L (SOIC, 16-Leads, Body 10x4mm, Pitch 1.27mm, IPC High Density)
part A pins: 1 PCPOUT (out) "Phase comparator pulse output", 2 PC1OUT (out) "Phase comparator 1 output", 3 COMPIN (in) "Comparator input", 13 PC2OUT (hiz) "Phase comparator 2 output", 14 SIGIN (in) "Signal input", 15 PC3OUT (out) "Phase comparator 3 output"
part B pins: 4 VCOOUT (out) "VCO output", 5 INH (in) "Inhibit input", 6 C1A "Capacitor C1 connection A", 7 C1B "Capacitor C1 connection B", 9 VCOIN (in) "VCO input", 10 DEMOUT (out) "Demodulator output", 11 R1 "Resistor R1 connection", 12 R2 "Resistor R2 connection"
part C pins: 8 GND (power) "Ground (0 V)", 16 VCC (power) "Positive supply voltage"

## CD74HCT4046AM96
designator U?
High Speed CMOS Logic Phase-Locked-Loop with VCO, D0016A, LARGE T&R; Generic Part Number: CD74HCT4046A; Manufacturer: Texas Instruments; PartNumber: CD74HCT4046AM96; VCC(Min)(V): 4.5; VCC(Max)(V): 5.5; ICC @ Nom Voltage(Max)(mA): 0.08; Input Type: TTL; Bits(#): 1; F @ Nom Voltage(Max)(Mhz): 25; Rating: Catalog; Technology Family: HCT; Voltage(Nom)(V): 5; Schmitt Trigger: No; Output Drive (IOL/IOH)(Max)(mA): 4/-4; tpd @ Nom Voltage(Max)(ns): 85; DatasheetVersion: SCHS204J; PackageReference: D0016A; Supplier 1: Mouser; Supplier Part Number 1: 595-CD74HCT4046AM96; Supplier 2: Digi-Key; Supplier Part Number 2: 296-14559-2-ND; Supplier 3: Digi-Key; Supplier Part Number 3: 296-14559-1-ND; Supplier 4: Digi-Key; Supplier Part Number 4: 296-14559-6-ND; Output Type: CMOS; Operating Temperature Range(C): -55 to 125; ComponentLink1Description: Manufacturer URL; ComponentLink1URL: http://www.ti.com/; ComponentLink2Description: Datasheet; ComponentLink2URL: http://www.ti.com/lit/ds/symlink/cd74hct4046a.pdf
footprint D0016A_N (SOIC, 16-Leads, Body 10x4mm, Pitch 1.27mm, IPC Medium Density)
footprint D0016A_M (SOIC, 16-Leads, Body 10x4mm, Pitch 1.27mm, IPC Low Density)
footprint D0016A_L (SOIC, 16-Leads, Body 10x4mm, Pitch 1.27mm, IPC High Density)
part A pins: 1 PCPOUT (out) "Phase comparator pulse output", 2 PC1OUT (out) "Phase comparator 1 output", 3 COMPIN (in) "Comparator input", 13 PC2OUT (hiz) "Phase comparator 2 output", 14 SIGIN (in) "Signal input", 15 PC3OUT (out) "Phase comparator 3 output"
part B pins: 4 VCOOUT (out) "VCO output", 5 INH (in) "Inhibit input", 6 C1A "Capacitor C1 connection A", 7 C1B "Capacitor C1 connection B", 9 VCOIN (in) "VCO input", 10 DEMOUT (out) "Demodulator output", 11 R1 "Resistor R1 connection", 12 R2 "Resistor R2 connection"
part C pins: 8 GND (power) "Ground (0 V)", 16 VCC (power) "Positive supply voltage"

## CD74HCT4046AMT
designator U?
High Speed CMOS Logic Phase-Locked-Loop with VCO, D0016A, SMALL T&R; Generic Part Number: CD74HCT4046A; Manufacturer: Texas Instruments; PartNumber: CD74HCT4046AMT; VCC(Min)(V): 4.5; VCC(Max)(V): 5.5; ICC @ Nom Voltage(Max)(mA): 0.08; Input Type: TTL; Bits(#): 1; F @ Nom Voltage(Max)(Mhz): 25; Rating: Catalog; Technology Family: HCT; Voltage(Nom)(V): 5; Schmitt Trigger: No; Output Drive (IOL/IOH)(Max)(mA): 4/-4; tpd @ Nom Voltage(Max)(ns): 85; DatasheetVersion: SCHS204J; PackageReference: D0016A; Supplier 1: Mouser; Supplier Part Number 1: 595-CD74HCT4046AMT; Supplier 2: Digi-Key; Supplier Part Number 2: CD74HCT4046AMT-ND; Output Type: CMOS; Operating Temperature Range(C): -55 to 125; ComponentLink1Description: Manufacturer URL; ComponentLink1URL: http://www.ti.com/; ComponentLink2Description: Datasheet; ComponentLink2URL: http://www.ti.com/lit/ds/symlink/cd74hct4046a.pdf
footprint D0016A_N (SOIC, 16-Leads, Body 10x4mm, Pitch 1.27mm, IPC Medium Density)
footprint D0016A_M (SOIC, 16-Leads, Body 10x4mm, Pitch 1.27mm, IPC Low Density)
footprint D0016A_L (SOIC, 16-Leads, Body 10x4mm, Pitch 1.27mm, IPC High Density)
part A pins: 1 PCPOUT (out) "Phase comparator pulse output", 2 PC1OUT (out) "Phase comparator 1 output", 3 COMPIN (in) "Comparator input", 13 PC2OUT (hiz) "Phase comparator 2 output", 14 SIGIN (in) "Signal input", 15 PC3OUT (out) "Phase comparator 3 output"
part B pins: 4 VCOOUT (out) "VCO output", 5 INH (in) "Inhibit input", 6 C1A "Capacitor C1 connection A", 7 C1B "Capacitor C1 connection B", 9 VCOIN (in) "VCO input", 10 DEMOUT (out) "Demodulator output", 11 R1 "Resistor R1 connection", 12 R2 "Resistor R2 connection"
part C pins: 8 GND (power) "Ground (0 V)", 16 VCC (power) "Positive supply voltage"

## CD74HCT4060E
designator U?
High Speed CMOS Logic 14-Stage Binary Counter with Oscillator, N0016A, TUBE; Generic Part Number: CD74HCT4060; Manufacturer: Texas Instruments; PartNumber: CD74HCT4060E; VCC(Min)(V): 4.5; VCC(Max)(V): 5.5; Inputs: 1; ICC @ Nom Voltage(Max)(mA): 0.08; Input Type: TTL; Bits(#): 14; F @ Nom Voltage(Max)(Mhz): 25; Rating: Catalog; Technology Family: HCT; Voltage(Nom)(V): 5; Schmitt Trigger: No; Output Drive (IOL/IOH)(Max)(mA): 4/-4; tpd @ Nom Voltage(Max)(ns): 83; DatasheetVersion: SCHS207G; PackageReference: N0016A; Supplier 1: Mouser; Supplier Part Number 1: 595-CD74HCT4060E; Supplier 2: Digi-Key; Supplier Part Number 2: 296-2156-5-ND; Output Type: CMOS; Function: Counter; Operating Temperature Range(C): -55 to 125; Type: Binary; Code_JEDEC: MS-001; ComponentLink1Description: Manufacturer URL; ComponentLink1URL: http://www.ti.com/; ComponentLink2Description: Datasheet; ComponentLink2URL: http://www.ti.com/lit/ds/symlink/cd74hct4060.pdf; ComponentLink3Description: Package Specification; ComponentLink3URL: http://www.ti.com/lit/ml/mpdi002c/mpdi002c.pdf
footprint N0016A (DIP, 16-Leads, Body 19.7x6.6mm, Pitch 2.54mm)
pins: 1 Q12 (out), 2 Q13 (out), 3 Q14 (out), 4 Q6 (out), 5 Q5 (out), 6 Q7 (out), 7 Q4 (out), 8 GND (power), 9 ΦO (out), 10 ~{Φ}O (out), 11 ΦI (in), 12 MR (in), 13 Q9 (out), 14 Q8 (out), 15 Q10 (out), 16 VCC (power)

## CD74HCT4060M
designator U?
High Speed CMOS Logic 14-Stage Binary Counter with Oscillator, D0016A, TUBE; Generic Part Number: CD74HCT4060; Manufacturer: Texas Instruments; PartNumber: CD74HCT4060M; VCC(Min)(V): 4.5; VCC(Max)(V): 5.5; Inputs: 1; ICC @ Nom Voltage(Max)(mA): 0.08; Input Type: TTL; Bits(#): 14; F @ Nom Voltage(Max)(Mhz): 25; Rating: Catalog; Technology Family: HCT; Voltage(Nom)(V): 5; Schmitt Trigger: No; Output Drive (IOL/IOH)(Max)(mA): 4/-4; tpd @ Nom Voltage(Max)(ns): 83; DatasheetVersion: SCHS207G; PackageReference: D0016A; Supplier 1: Mouser; Supplier Part Number 1: 595-CD74HCT4060M; Supplier 2: Digi-Key; Supplier Part Number 2: 296-9280-5-ND; Output Type: CMOS; Function: Counter; Operating Temperature Range(C): -55 to 125; Type: Binary; Code_JEDEC: MS-012 variation AC; ComponentLink1Description: Manufacturer URL; ComponentLink1URL: http://www.ti.com/; ComponentLink2Description: Datasheet; ComponentLink2URL: http://www.ti.com/lit/ds/symlink/cd74hct4060.pdf; ComponentLink3Description: Package Specification; ComponentLink3URL: http://www.ti.com/lit/ml/mpds178g/mpds178g.pdf
footprint D0016A_N (SOIC, 16-Leads, Body 10x4mm, Pitch 1.27mm, IPC Medium Density)
footprint D0016A_M (SOIC, 16-Leads, Body 10x4mm, Pitch 1.27mm, IPC Low Density)
footprint D0016A_L (SOIC, 16-Leads, Body 10x4mm, Pitch 1.27mm, IPC High Density)
pins: 1 Q12 (out), 2 Q13 (out), 3 Q14 (out), 4 Q6 (out), 5 Q5 (out), 6 Q7 (out), 7 Q4 (out), 8 GND (power), 9 ΦO (out), 10 ~{Φ}O (out), 11 ΦI (in), 12 MR (in), 13 Q9 (out), 14 Q8 (out), 15 Q10 (out), 16 VCC (power)

## CD74HCT4060M96
designator U?
High Speed CMOS Logic 14-Stage Binary Counter with Oscillator, D0016A, LARGE T&R; Generic Part Number: CD74HCT4060; Manufacturer: Texas Instruments; PartNumber: CD74HCT4060M96; VCC(Min)(V): 4.5; VCC(Max)(V): 5.5; Inputs: 1; ICC @ Nom Voltage(Max)(mA): 0.08; Input Type: TTL; Bits(#): 14; F @ Nom Voltage(Max)(Mhz): 25; Rating: Catalog; Technology Family: HCT; Voltage(Nom)(V): 5; Schmitt Trigger: No; Output Drive (IOL/IOH)(Max)(mA): 4/-4; tpd @ Nom Voltage(Max)(ns): 83; DatasheetVersion: SCHS207G; PackageReference: D0016A; Supplier 1: Mouser; Supplier Part Number 1: 595-CD74HCT4060M96; Supplier 2: Digi-Key; Supplier Part Number 2: 296-31616-2-ND; Supplier 3: Digi-Key; Supplier Part Number 3: 296-31616-1-ND; Supplier 4: Digi-Key; Supplier Part Number 4: 296-31616-6-ND; Output Type: CMOS; Function: Counter; Operating Temperature Range(C): -55 to 125; Type: Binary; Code_JEDEC: MS-012 variation AC; ComponentLink1Description: Manufacturer URL; ComponentLink1URL: http://www.ti.com/; ComponentLink2Description: Datasheet; ComponentLink2URL: http://www.ti.com/lit/ds/symlink/cd74hct4060.pdf; ComponentLink3Description: Package Specification; ComponentLink3URL: http://www.ti.com/lit/ml/mpds178g/mpds178g.pdf
footprint D0016A_N (SOIC, 16-Leads, Body 10x4mm, Pitch 1.27mm, IPC Medium Density)
footprint D0016A_M (SOIC, 16-Leads, Body 10x4mm, Pitch 1.27mm, IPC Low Density)
footprint D0016A_L (SOIC, 16-Leads, Body 10x4mm, Pitch 1.27mm, IPC High Density)
pins: 1 Q12 (out), 2 Q13 (out), 3 Q14 (out), 4 Q6 (out), 5 Q5 (out), 6 Q7 (out), 7 Q4 (out), 8 GND (power), 9 ΦO (out), 10 ~{Φ}O (out), 11 ΦI (in), 12 MR (in), 13 Q9 (out), 14 Q8 (out), 15 Q10 (out), 16 VCC (power)

## CD74HCT4060MT
designator U?
High Speed CMOS Logic 14-Stage Binary Counter with Oscillator, D0016A, SMALL T&R; Generic Part Number: CD74HCT4060; Manufacturer: Texas Instruments; PartNumber: CD74HCT4060MT; VCC(Min)(V): 4.5; VCC(Max)(V): 5.5; Inputs: 1; ICC @ Nom Voltage(Max)(mA): 0.08; Input Type: TTL; Bits(#): 14; F @ Nom Voltage(Max)(Mhz): 25; Rating: Catalog; Technology Family: HCT; Voltage(Nom)(V): 5; Schmitt Trigger: No; Output Drive (IOL/IOH)(Max)(mA): 4/-4; tpd @ Nom Voltage(Max)(ns): 83; DatasheetVersion: SCHS207G; PackageReference: D0016A; Supplier 1: Mouser; Supplier Part Number 1: 595-CD74HCT4060MT; Supplier 2: Digi-Key; Supplier Part Number 2: CD74HCT4060MT-ND; Output Type: CMOS; Function: Counter; Operating Temperature Range(C): -55 to 125; Type: Binary; Code_JEDEC: MS-012 variation AC; ComponentLink1Description: Manufacturer URL; ComponentLink1URL: http://www.ti.com/; ComponentLink2Description: Datasheet; ComponentLink2URL: http://www.ti.com/lit/ds/symlink/cd74hct4060.pdf; ComponentLink3Description: Package Specification; ComponentLink3URL: http://www.ti.com/lit/ml/mpds178g/mpds178g.pdf
footprint D0016A_N (SOIC, 16-Leads, Body 10x4mm, Pitch 1.27mm, IPC Medium Density)
footprint D0016A_M (SOIC, 16-Leads, Body 10x4mm, Pitch 1.27mm, IPC Low Density)
footprint D0016A_L (SOIC, 16-Leads, Body 10x4mm, Pitch 1.27mm, IPC High Density)
pins: 1 Q12 (out), 2 Q13 (out), 3 Q14 (out), 4 Q6 (out), 5 Q5 (out), 6 Q7 (out), 7 Q4 (out), 8 GND (power), 9 ΦO (out), 10 ~{Φ}O (out), 11 ΦI (in), 12 MR (in), 13 Q9 (out), 14 Q8 (out), 15 Q10 (out), 16 VCC (power)

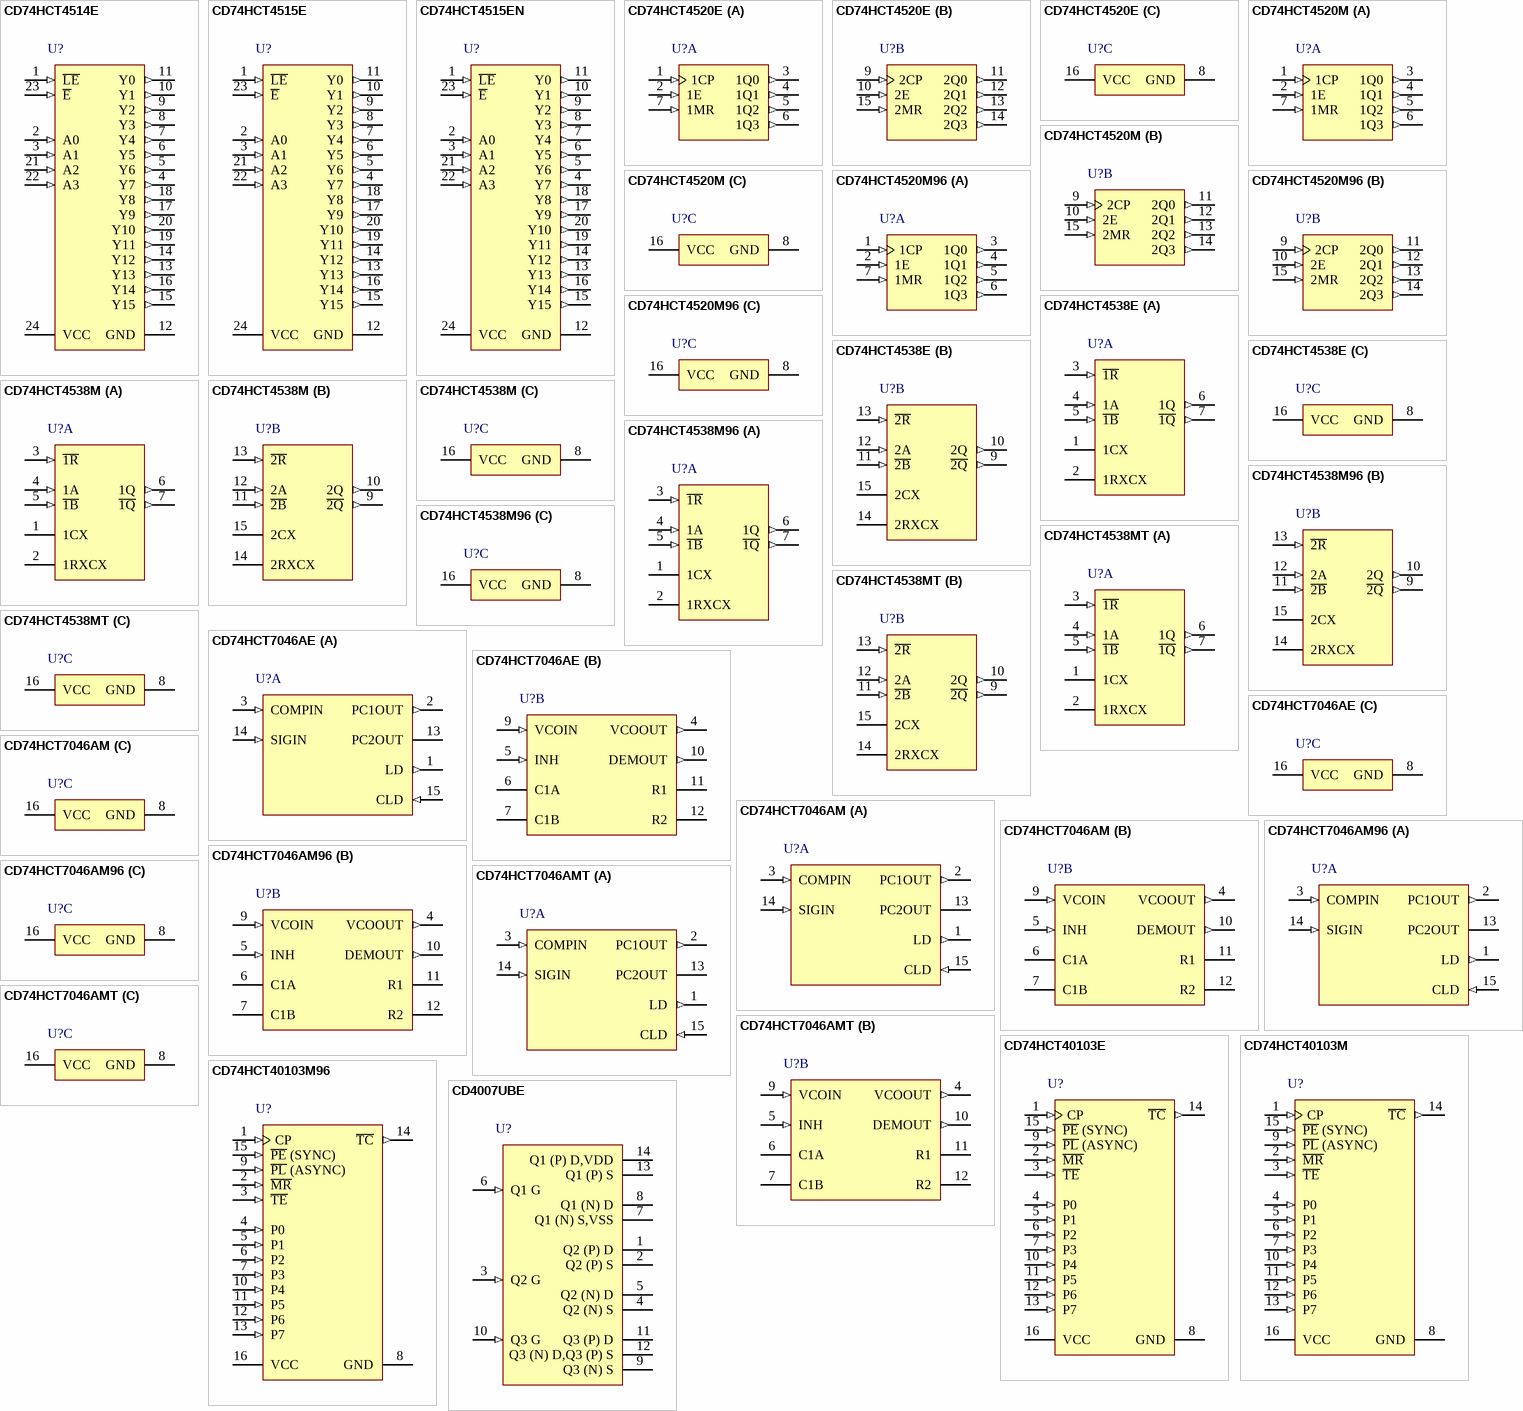
[diagram p22: symbols CD74HCT4514E to CD4007UBE]

## CD74HCT4514E
designator U?
High Speed CMOS Logic 4-to-16 Line Decoder/Demultiplexer with Input Latches, N0024A, TUBE; Generic Part Number: CD74HCT4514; Manufacturer: Texas Instruments; PartNumber: CD74HCT4514E; DatasheetVersion: SCHS314D; PackageReference: N0024A; Supplier 1: Mouser; Supplier Part Number 1: 595-CD74HCT4514E; Supplier 2: Digi-Key; Supplier Part Number 2: 296-9283-5-ND; Code_JEDEC: MS-011; ComponentLink1Description: Manufacturer URL; ComponentLink1URL: http://www.ti.com/; ComponentLink2Description: Datasheet; ComponentLink2URL: http://www.ti.com/lit/ds/symlink/cd74hct4514.pdf; ComponentLink3Description: Package Specification; ComponentLink3URL: http://www.ti.com/lit/ml/mpdi008/mpdi008.pdf
footprint N0024A (DIP, 24-Leads, Body 32.25x14.2mm, Pitch 2.54mm)
pins: 1 ~{LE} (in), 2 A0 (in), 3 A1 (in), 4 Y7 (out), 5 Y6 (out), 6 Y5 (out), 7 Y4 (out), 8 Y3 (out), 9 Y2 (out), 10 Y1 (out), 11 Y0 (out), 12 GND (power), 13 Y13 (out), 14 Y12 (out), 15 Y15 (out), 16 Y14 (out), 17 Y9 (out), 18 Y8 (out), 19 Y11 (out), 20 Y10 (out), 21 A2 (in), 22 A3 (in), 23 ~{E} (in), 24 VCC (power)

## CD74HCT4515E
designator U?
4-Line to 16-Line Decoder/Demultiplexer with Input Latches, N0024A, TUBE; Generic Part Number: CD74HCT4515; Manufacturer: Texas Instruments; PartNumber: CD74HCT4515E; DatasheetVersion: SCHS314D; PackageReference: N0024A; Supplier 1: Mouser; Supplier Part Number 1: 595-CD74HCT4515E; Supplier 2: Digi-Key; Supplier Part Number 2: 296-33159-5-ND; Code_JEDEC: MS-011; ComponentLink1Description: Manufacturer URL; ComponentLink1URL: http://www.ti.com/; ComponentLink2Description: Datasheet; ComponentLink2URL: http://www.ti.com/lit/ds/symlink/cd74hct4515.pdf; ComponentLink3Description: Package Specification; ComponentLink3URL: http://www.ti.com/lit/ml/mpdi008/mpdi008.pdf
footprint N0024A (DIP, 24-Leads, Body 32.25x14.2mm, Pitch 2.54mm)
pins: 1 ~{LE} (in), 2 A0 (in), 3 A1 (in), 4 Y7 (out), 5 Y6 (out), 6 Y5 (out), 7 Y4 (out), 8 Y3 (out), 9 Y2 (out), 10 Y1 (out), 11 Y0 (out), 12 GND (power), 13 Y13 (out), 14 Y12 (out), 15 Y15 (out), 16 Y14 (out), 17 Y9 (out), 18 Y8 (out), 19 Y11 (out), 20 Y10 (out), 21 A2 (in), 22 A3 (in), 23 ~{E} (in), 24 VCC (power)

## CD74HCT4515EN
designator U?
4-Line to 16-Line Decoder/Demultiplexer with Input Latches, NT0024A, TUBE; Generic Part Number: CD74HCT4515; Manufacturer: Texas Instruments; PartNumber: CD74HCT4515EN; DatasheetVersion: SCHS314D; PackageReference: NT0024A; Supplier 1: Mouser; Supplier Part Number 1: 595-CD74HCT4515EN; Supplier 2: Digi-Key; Supplier Part Number 2: CD74HCT4515EN-ND; ComponentLink1Description: Manufacturer URL; ComponentLink1URL: http://www.ti.com/; ComponentLink2Description: Datasheet; ComponentLink2URL: http://www.ti.com/lit/ds/symlink/cd74hct4515.pdf; ComponentLink3Description: Package Specification; ComponentLink3URL: http://www.ti.com/lit/ml/mpdi004a/mpdi004a.pdf
footprint NT0024A (DIP, 24-Leads, Body 32.05x7.1mm, Pitch 2.54mm)
pins: 1 ~{LE} (in), 2 A0 (in), 3 A1 (in), 4 Y7 (out), 5 Y6 (out), 6 Y5 (out), 7 Y4 (out), 8 Y3 (out), 9 Y2 (out), 10 Y1 (out), 11 Y0 (out), 12 GND (power), 13 Y13 (out), 14 Y12 (out), 15 Y15 (out), 16 Y14 (out), 17 Y9 (out), 18 Y8 (out), 19 Y11 (out), 20 Y10 (out), 21 A2 (in), 22 A3 (in), 23 ~{E} (in), 24 VCC (power)

## CD74HCT4520E
designator U?
High Speed CMOS Logic Dual Binary Up-Counters, N0016A, TUBE; Generic Part Number: CD74HCT4520; Manufacturer: Texas Instruments; PartNumber: CD74HCT4520E; VCC(Min)(V): 4.5; VCC(Max)(V): 5.5; Inputs: 1; ICC @ Nom Voltage(Max)(mA): 0.08; Input Type: TTL; Bits(#): 4; F @ Nom Voltage(Max)(Mhz): 25; Rating: Catalog; Technology Family: HCT; Voltage(Nom)(V): 5; Schmitt Trigger: No; Output Drive (IOL/IOH)(Max)(mA): 4/-4; tpd @ Nom Voltage(Max)(ns): 66; DatasheetVersion: SCHS216D; PackageReference: N0016A; Supplier 1: Mouser; Supplier Part Number 1: 595-CD74HCT4520E; Supplier 2: Digi-Key; Supplier Part Number 2: 296-9284-5-ND; Output Type: CMOS; Function: Counter; Operating Temperature Range(C): -55 to 125; Type: Binary; Code_JEDEC: MS-001; ComponentLink1Description: Manufacturer URL; ComponentLink1URL: http://www.ti.com/; ComponentLink2Description: Datasheet; ComponentLink2URL: http://www.ti.com/lit/ds/symlink/cd74hct4520.pdf; ComponentLink3Description: Package Specification; ComponentLink3URL: http://www.ti.com/lit/ml/mpdi002c/mpdi002c.pdf
footprint N0016A (DIP, 16-Leads, Body 19.7x6.6mm, Pitch 2.54mm)
part A pins: 1 1CP (in), 2 1E (in), 3 1Q0 (out), 4 1Q1 (out), 5 1Q2 (out), 6 1Q3 (out), 7 1MR (in)
part B pins: 9 2CP (in), 10 2E (in), 11 2Q0 (out), 12 2Q1 (out), 13 2Q2 (out), 14 2Q3 (out), 15 2MR (in)
part C pins: 8 GND (power), 16 VCC (power)

## CD74HCT4520M
designator U?
High Speed CMOS Logic Dual Binary Up-Counters, D0016A, TUBE; Generic Part Number: CD74HCT4520; Manufacturer: Texas Instruments; PartNumber: CD74HCT4520M; VCC(Min)(V): 4.5; VCC(Max)(V): 5.5; Inputs: 1; ICC @ Nom Voltage(Max)(mA): 0.08; Input Type: TTL; Bits(#): 4; F @ Nom Voltage(Max)(Mhz): 25; Rating: Catalog; Technology Family: HCT; Voltage(Nom)(V): 5; Schmitt Trigger: No; Output Drive (IOL/IOH)(Max)(mA): 4/-4; tpd @ Nom Voltage(Max)(ns): 66; DatasheetVersion: SCHS216D; PackageReference: D0016A; Supplier 1: Mouser; Supplier Part Number 1: 595-CD74HCT4520M; Supplier 2: Digi-Key; Supplier Part Number 2: 296-9285-5-ND; Output Type: CMOS; Function: Counter; Operating Temperature Range(C): -55 to 125; Type: Binary; Code_JEDEC: MS-012 variation AC; ComponentLink1Description: Manufacturer URL; ComponentLink1URL: http://www.ti.com/; ComponentLink2Description: Datasheet; ComponentLink2URL: http://www.ti.com/lit/ds/symlink/cd74hct4520.pdf; ComponentLink3Description: Package Specification; ComponentLink3URL: http://www.ti.com/lit/ml/mpds178g/mpds178g.pdf
footprint D0016A_N (SOIC, 16-Leads, Body 10x4mm, Pitch 1.27mm, IPC Medium Density)
footprint D0016A_M (SOIC, 16-Leads, Body 10x4mm, Pitch 1.27mm, IPC Low Density)
footprint D0016A_L (SOIC, 16-Leads, Body 10x4mm, Pitch 1.27mm, IPC High Density)
part A pins: 1 1CP (in), 2 1E (in), 3 1Q0 (out), 4 1Q1 (out), 5 1Q2 (out), 6 1Q3 (out), 7 1MR (in)
part B pins: 9 2CP (in), 10 2E (in), 11 2Q0 (out), 12 2Q1 (out), 13 2Q2 (out), 14 2Q3 (out), 15 2MR (in)
part C pins: 8 GND (power), 16 VCC (power)

## CD74HCT4520M96
designator U?
High Speed CMOS Logic Dual Binary Up-Counters, D0016A, LARGE T&R; Generic Part Number: CD74HCT4520; Manufacturer: Texas Instruments; PartNumber: CD74HCT4520M96; VCC(Min)(V): 4.5; VCC(Max)(V): 5.5; Inputs: 1; ICC @ Nom Voltage(Max)(mA): 0.08; Input Type: TTL; Bits(#): 4; F @ Nom Voltage(Max)(Mhz): 25; Rating: Catalog; Technology Family: HCT; Voltage(Nom)(V): 5; Schmitt Trigger: No; Output Drive (IOL/IOH)(Max)(mA): 4/-4; tpd @ Nom Voltage(Max)(ns): 66; DatasheetVersion: SCHS216D; PackageReference: D0016A; Supplier 1: Mouser; Supplier Part Number 1: 595-CD74HCT4520M96; Supplier 2: Digi-Key; Supplier Part Number 2: 296-37337-2-ND; Supplier 3: Digi-Key; Supplier Part Number 3: 296-37337-1-ND; Supplier 4: Digi-Key; Supplier Part Number 4: 296-37337-6-ND; Output Type: CMOS; Function: Counter; Operating Temperature Range(C): -55 to 125; Type: Binary; Code_JEDEC: MS-012 variation AC; ComponentLink1Description: Manufacturer URL; ComponentLink1URL: http://www.ti.com/; ComponentLink2Description: Datasheet; ComponentLink2URL: http://www.ti.com/lit/ds/symlink/cd74hct4520.pdf; ComponentLink3Description: Package Specification; ComponentLink3URL: http://www.ti.com/lit/ml/mpds178g/mpds178g.pdf
footprint D0016A_N (SOIC, 16-Leads, Body 10x4mm, Pitch 1.27mm, IPC Medium Density)
footprint D0016A_M (SOIC, 16-Leads, Body 10x4mm, Pitch 1.27mm, IPC Low Density)
footprint D0016A_L (SOIC, 16-Leads, Body 10x4mm, Pitch 1.27mm, IPC High Density)
part A pins: 1 1CP (in), 2 1E (in), 3 1Q0 (out), 4 1Q1 (out), 5 1Q2 (out), 6 1Q3 (out), 7 1MR (in)
part B pins: 9 2CP (in), 10 2E (in), 11 2Q0 (out), 12 2Q1 (out), 13 2Q2 (out), 14 2Q3 (out), 15 2MR (in)
part C pins: 8 GND (power), 16 VCC (power)

## CD74HCT4538E
designator U?
High Speed CMOS Logic Dual Retriggerable Precision Monostable Multivibrators, N0016A, TUBE; Generic Part Number: CD74HCT4538; Manufacturer: Texas Instruments; PartNumber: CD74HCT4538E; VCC(Min)(V): 4.5; VCC(Max)(V): 5.5; ICC @ Nom Voltage(Max)(mA): 0.08; Input Type: TTL; Bits(#): 2; F @ Nom Voltage(Max)(Mhz): 25; Rating: Catalog; Technology Family: HCT; Voltage(Nom)(V): 5; Schmitt Trigger: No; Output Drive (IOL/IOH)(Max)(mA): 4/-4; tpd @ Nom Voltage(Max)(ns): 69; DatasheetVersion: SCHS123E; PackageReference: N0016A; Supplier 1: Mouser; Supplier Part Number 1: 595-CD74HCT4538E; Supplier 2: Digi-Key; Supplier Part Number 2: 296-2125-5-ND; Output Type: CMOS; Operating Temperature Range(C): -55 to 125; Code_JEDEC: MS-001; ComponentLink1Description: Manufacturer URL; ComponentLink1URL: http://www.ti.com/; ComponentLink2Description: Datasheet; ComponentLink2URL: http://www.ti.com/lit/ds/symlink/cd74hct4538.pdf; ComponentLink3Description: Package Specification; ComponentLink3URL: http://www.ti.com/lit/ml/mpdi002c/mpdi002c.pdf
footprint N0016A (DIP, 16-Leads, Body 19.7x6.6mm, Pitch 2.54mm)
part A pins: 1 1CX, 2 1RXCX, 3 ~{1R} (in), 4 1A (in), 5 ~{1B} (in), 6 1Q (out), 7 ~{1Q} (out)
part B pins: 9 ~{2Q} (out), 10 2Q (out), 11 ~{2B} (in), 12 2A (in), 13 ~{2R} (in), 14 2RXCX, 15 2CX
part C pins: 8 GND (power), 16 VCC (power)

## CD74HCT4538M
designator U?
High Speed CMOS Logic Dual Retriggerable Precision Monostable Multivibrators, D0016A, TUBE; Generic Part Number: CD74HCT4538; Manufacturer: Texas Instruments; PartNumber: CD74HCT4538M; VCC(Min)(V): 4.5; VCC(Max)(V): 5.5; ICC @ Nom Voltage(Max)(mA): 0.08; Input Type: TTL; Bits(#): 2; F @ Nom Voltage(Max)(Mhz): 25; Rating: Catalog; Technology Family: HCT; Voltage(Nom)(V): 5; Schmitt Trigger: No; Output Drive (IOL/IOH)(Max)(mA): 4/-4; tpd @ Nom Voltage(Max)(ns): 69; DatasheetVersion: SCHS123E; PackageReference: D0016A; Supplier 1: Mouser; Supplier Part Number 1: 595-CD74HCT4538M; Supplier 2: Digi-Key; Supplier Part Number 2: 296-9286-5-ND; Output Type: CMOS; Operating Temperature Range(C): -55 to 125; Code_JEDEC: MS-012 variation AC; ComponentLink1Description: Manufacturer URL; ComponentLink1URL: http://www.ti.com/; ComponentLink2Description: Datasheet; ComponentLink2URL: http://www.ti.com/lit/ds/symlink/cd74hct4538.pdf; ComponentLink3Description: Package Specification; ComponentLink3URL: http://www.ti.com/lit/ml/mpds178g/mpds178g.pdf
footprint D0016A_N (SOIC, 16-Leads, Body 10x4mm, Pitch 1.27mm, IPC Medium Density)
footprint D0016A_M (SOIC, 16-Leads, Body 10x4mm, Pitch 1.27mm, IPC Low Density)
footprint D0016A_L (SOIC, 16-Leads, Body 10x4mm, Pitch 1.27mm, IPC High Density)
part A pins: 1 1CX, 2 1RXCX, 3 ~{1R} (in), 4 1A (in), 5 ~{1B} (in), 6 1Q (out), 7 ~{1Q} (out)
part B pins: 9 ~{2Q} (out), 10 2Q (out), 11 ~{2B} (in), 12 2A (in), 13 ~{2R} (in), 14 2RXCX, 15 2CX
part C pins: 8 GND (power), 16 VCC (power)